# EAGLE library part PTN78020W (library Highwind)
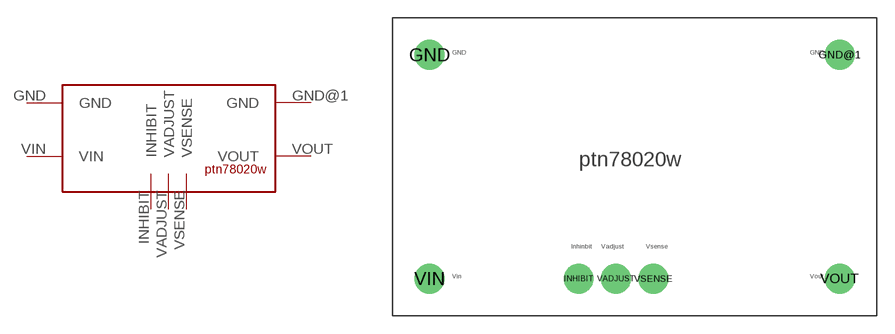
[diagram p1: symbol with the pads of PTN78020W; footprint PTN78020W]

Designator prefix -

## PTN78020W  [PTN78020W]
GND  GND  pwr
GND@1  GND  pwr
INHIBIT  INHIBIT  pwr
VADJUST  VADJUST  pwr
VIN  VIN  pwr
VOUT  VOUT  pwr
VSENSE  VSENSE  pwr

## Footprint PTN78020W (pad centres in mm)
drill 1.1 pad 2.54 round: GND -15.875,19.05; GND@1 19.05,19.05; INHIBIT -3.175,0; VADJUST 0,0; VIN -15.875,0; VOUT 19.05,0; VSENSE 3.175,0